# EAGLE library part ADS1115LIDGSR (library My_Library)
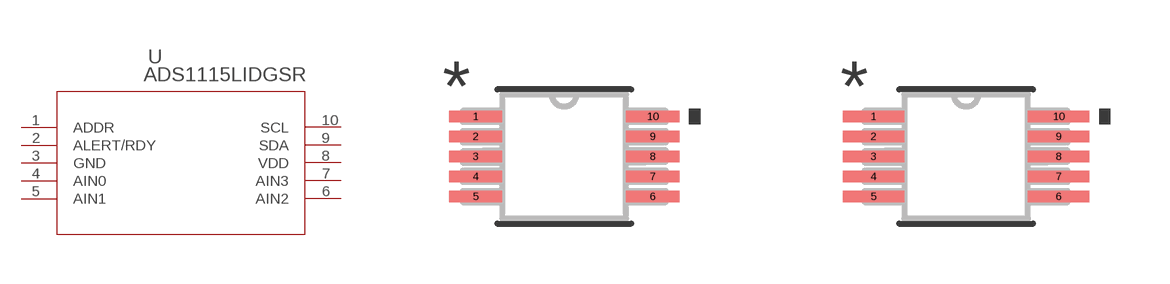
[diagram p16: symbol with the pads of VSSOP10_DGS_TEX; footprints VSSOP10_DGS_TEX, VSSOP10_DGS_TEX-M]

Designator prefix U

## ADS1115LIDGSR (COPYRIGHT: Copyright (C) 2024 Ultra Librarian. All rights reserved.; MANUFACTURER_PART_NUMBER: ADS1115LIDGSR; MFR_NAME: Texas Instruments; TYPE: Data Acquisition)  [VSSOP10_DGS_TEX]
1  ADDR  in
2  ALERT/RDY  out
3  GND  pas
4  AIN0  in
5  AIN1  in
6  AIN2  in
7  AIN3  in
8  VDD  pwr
9  SDA
10  SCL  in

## ADS1115LIDGSRVSSOP10_DGS_TEX-M (COPYRIGHT: Copyright (C) 2024 Ultra Librarian. All rights reserved.; MANUFACTURER_PART_NUMBER: ADS1115LIDGSR; MFR_NAME: Texas Instruments; TYPE: Data Acquisition)  [VSSOP10_DGS_TEX-M]
Pads as for VSSOP10_DGS_TEX

## ADS1115LIDGSRVSSOP10_DGS_TEX-L (COPYRIGHT: Copyright (C) 2024 Ultra Librarian. All rights reserved.; MANUFACTURER_PART_NUMBER: ADS1115LIDGSR; MFR_NAME: Texas Instruments; TYPE: Data Acquisition)  [VSSOP10_DGS_TEX-L]
Pads as for VSSOP10_DGS_TEX

## Footprint VSSOP10_DGS_TEX (pad centres in mm)
smd 1.333 x 0.279: 1 -2.216,1; 2 -2.216,0.5; 3 -2.216,0; 4 -2.216,-0.5; 5 -2.216,-1; 6 2.216,-1; 7 2.216,-0.5; 8 2.216,0; 9 2.216,0.5; 10 2.216,1

## Footprint VSSOP10_DGS_TEX-M (pad centres in mm)
smd 1.537 x 0.279: 1 -2.318,1; 2 -2.318,0.5; 3 -2.318,0; 4 -2.318,-0.5; 5 -2.318,-1; 6 2.318,-1; 7 2.318,-0.5; 8 2.318,0; 9 2.318,0.5; 10 2.318,1

## Footprint VSSOP10_DGS_TEX-L (pad centres in mm)
smd 1.118 x 0.229: 1 -2.121,1; 2 -2.121,0.5; 3 -2.121,0; 4 -2.121,-0.5; 5 -2.121,-1; 6 2.121,-1; 7 2.121,-0.5; 8 2.121,0; 9 2.121,0.5; 10 2.121,1